# EAGLE library part ESP32 (library EW_IC_Processors)
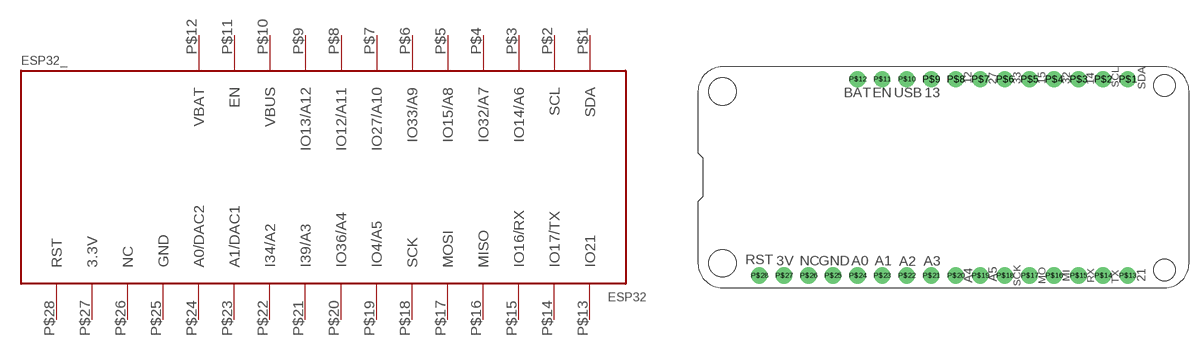
[diagram p4: symbol with the pads of ADAFRUIT_ESP32; footprint ADAFRUIT_ESP32]

Designator prefix ESP32_

## ESP32  [ADAFRUIT_ESP32]
P$1  SDA
P$2  SCL
P$3  IO14/A6
P$4  IO32/A7
P$5  IO15/A8
P$6  IO33/A9
P$7  IO27/A10
P$8  IO12/A11
P$9  IO13/A12
P$10  VBUS
P$11  EN
P$12  VBAT
P$13  IO21
P$14  IO17/TX
P$15  IO16/RX
P$16  MISO
P$17  MOSI
P$18  SCK
P$19  IO4/A5
P$20  IO36/A4
P$21  I39/A3
P$22  I34/A2
P$23  A1/DAC1
P$24  A0/DAC2
P$25  GND
P$26  NC
P$27  3.3V
P$28  RST

## Footprint ADAFRUIT_ESP32 (pad centres in mm)
drill 1 pad 1.676: P$1 44.45,21.59; P$2 41.91,21.59; P$3 39.37,21.59; P$4 36.83,21.59; P$5 34.29,21.59; P$6 31.75,21.59; P$7 29.21,21.59; P$8 26.67,21.59; P$9 24.13,21.59; P$10 21.59,21.59; P$11 19.05,21.59; P$12 16.51,21.59; P$13 44.45,1.27; P$14 41.91,1.27; P$15 39.37,1.27; P$16 36.83,1.27; P$17 34.29,1.27; P$18 31.75,1.27; P$19 29.21,1.27; P$20 26.67,1.27; P$21 24.13,1.27; P$22 21.59,1.27; P$23 19.05,1.27; P$24 16.51,1.27; P$25 13.97,1.27; P$26 11.43,1.27; P$27 8.89,1.27; P$28 6.35,1.27